# EAGLE library part MLPF-WB55-01E3 (library MLPF-WB55-01E3)
RF Wireless Misc 2.4 GHz Low Pass Filter matched to STM32WB55 Source: Datasheet <https://www.st.com/resource/en/datasheet/mlpf-wb55-01e3.pdf>
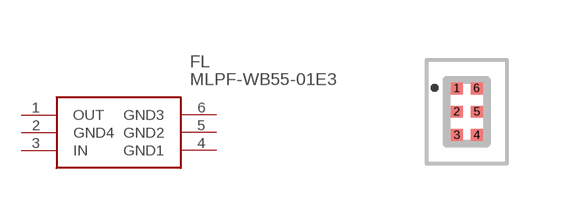
[diagram p0: symbol with the pads of MLPFWB5501E3; footprint MLPFWB5501E3]

Designator prefix FL

## MLPF-WB55-01E3 (Arrow_Part_Number: MLPF-WB55-01E3; Arrow_Price-Stock: https://www.arrow.com/en/products/mlpf-wb55-01e3/stmicroelectronics; Description: RF Wireless Misc 2.4 GHz Low Pass Filter matched to STM32WB55; Height: 0.7mm; Manufacturer_Name: STMicroelectronics; Manufacturer_Part_Number: MLPF-WB55-01E3; Mouser_Part_Number: 511-MLPF-WB55-01E3; Mouser_Price-Stock: https://www.mouser.co.uk/ProductDetail/STMicroelectronics/MLPF-WB55-01E3?qs=vLWxofP3U2xV%2FkxL9PmCDA%3D%3D)  [MLPFWB5501E3]
1  OUT
2  GND4
3  IN
4  GND1
5  GND2
6  GND3

## Footprint MLPFWB5501E3 (pad centres in mm)
MLPF-WB55-01E3-2
smd 0.3 x 0.3: 1 -0.25,0.587; 2 -0.25,0; 3 -0.25,-0.587; 4 0.25,-0.587; 5 0.25,0; 6 0.25,0.587